# Altium schematic symbol library CN_7P.SchLib: 1 symbol
Pins are listed as number, name and electrical type; pins without a type are passive.

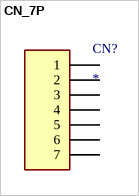
[diagram p0: symbol CN_7P]

## CN_7P
designator CN?
pins: 1, 2, 3, 4, 5, 6, 7